# Altium footprint library Opto.PcbLib: 23 footprints (part 1 of 2)
Each footprint in its own frame and in the unit in brackets; x right, y up, seen from the top. Pads: shape width x height; smd on the part's side, far side on the other; paste and mask are expansions set on the pad; w line width, h text height; cw(c..) or ccw(c..) is an arc to the next point about the centre after c.
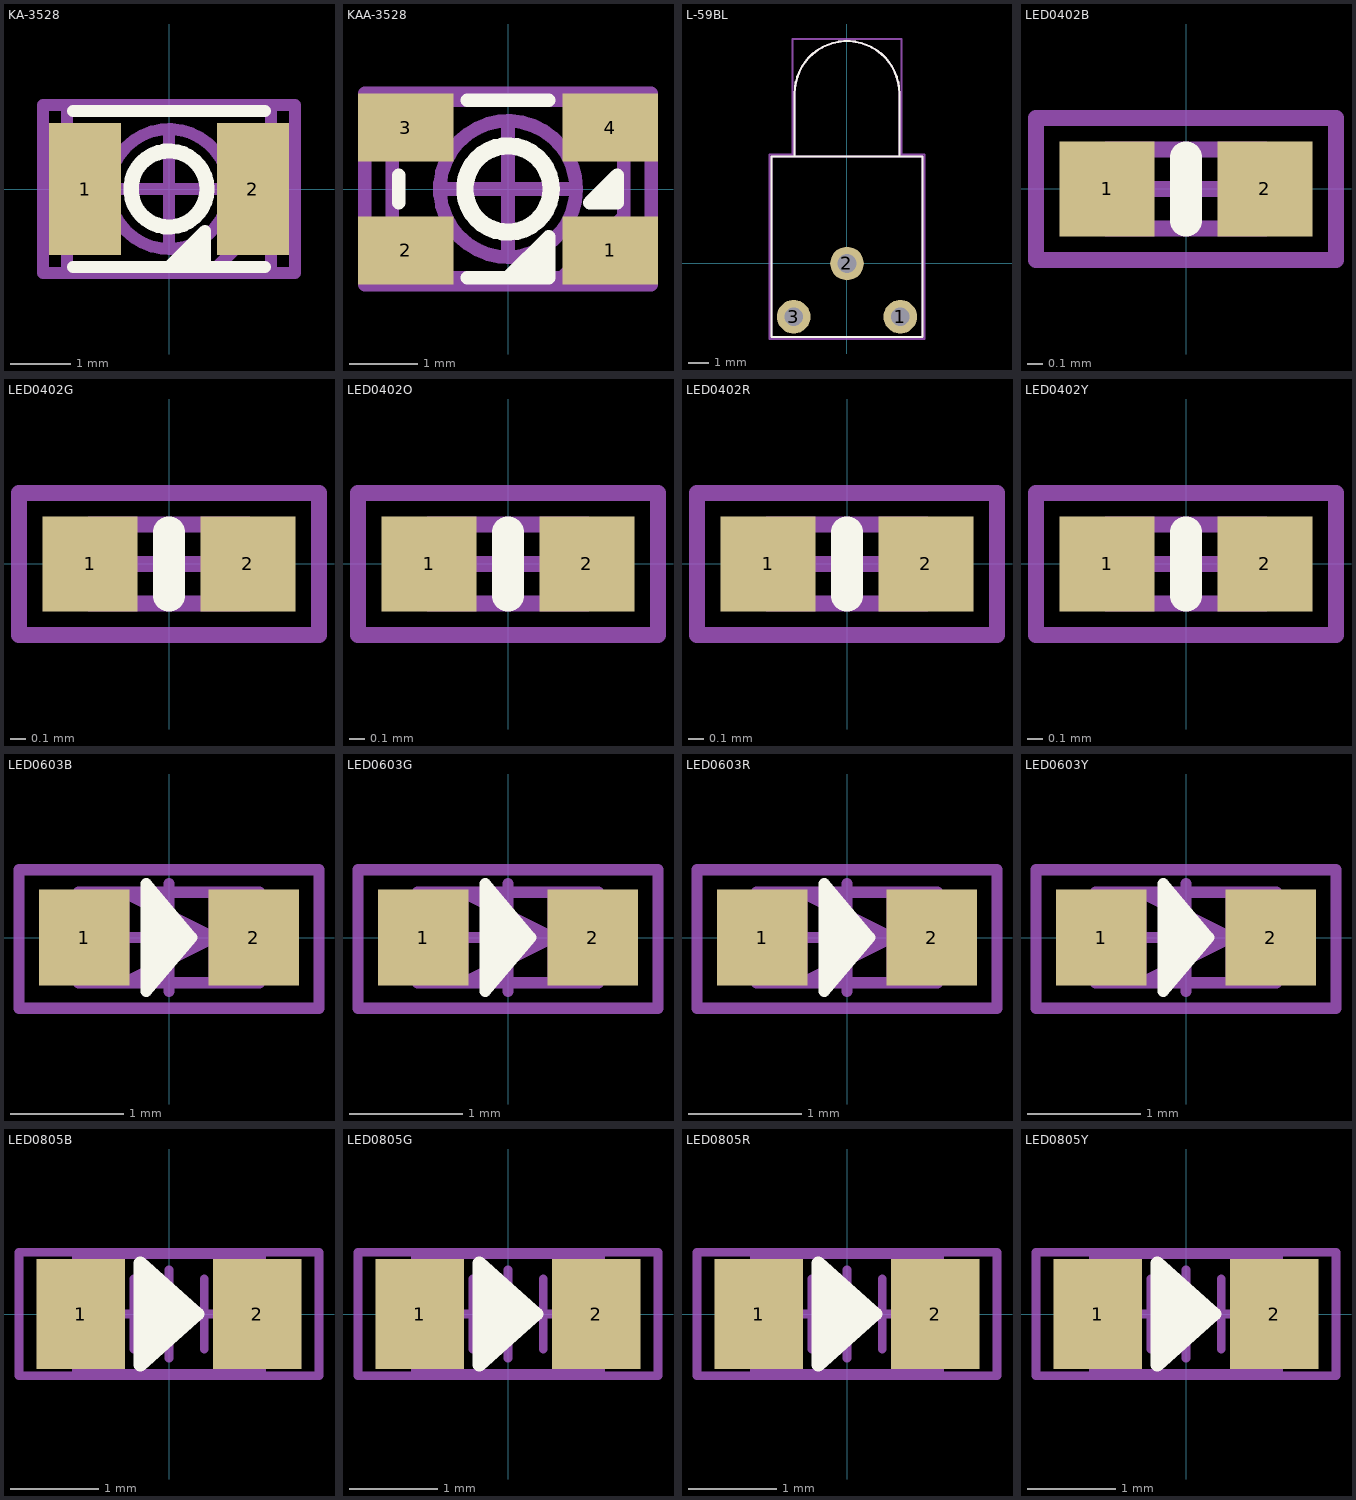
[diagram p0: the footprints below, top view; thin cyan lines are the x and y axes]

## KA-3528 [mm]
pads (2):
  rect 1.2x2.2 smd: 1(-1.4,0) 2(1.4,0)
Top Overlay:
  circle w0.254: c0,0 r0.632
  lines w0.2: -1.6,-1.3 1.6,-1.3 ; -1.6,1.3 1.6,1.3 ; 0,-1.3 0.6,-0.7 0.6,-1.3 0.237,-1.3 0.537,-1 0.537,-1.181
Top Assembly (Mech3):
  circle w0.2: c0,0 r1
  lines w0.2: 0.8,-1.3 1.7,-0.4 ; -1.7,-1.3 1.7,-1.3 1.7,1.3 -1.7,1.3 -1.7,-1.3
Top Courtyard:
  lines w0.2: -1,0 0,0 ; 0,-1 0,0 ; 0,1 0,0 ; 1,0 0,0 ; -2.1,-1.4 -2.1,1.4 2.1,1.4 2.1,-1.4 -2.1,-1.4
3D body "User Library-KAA-3528.STEP": height 1.9, standoff 0, extent -1.75,-1.4 1.75,1.4

## KAA-3528 [mm]
pads (4):
  rect 1.4x1 smd: 1(1.5,-0.9) 2(-1.5,-0.9) 3(-1.5,0.9) 4(1.5,0.9)
Top Overlay:
  circle w0.254: c0,0 r0.632
  lines w0.2: -1.6,-0.2 -1.6,0.2 ; -0.6,-1.3 0.6,-1.3 ; -0.6,1.3 0.6,1.3 ; 0,-1.3 0.6,-0.7 0.6,-1.3 ; 0.537,-1.181 0.537,-1 0.237,-1.3 0.6,-1.3 ; 1.4,-0.2 1.4,0 1.6,-0.2 ; 1.6,-0.2 1.6,0.2 1.2,-0.2 1.6,-0.2
Top Assembly (Mech3):
  circle w0.2: c0,0 r1
  lines w0.2: 0.8,-1.3 1.7,-0.4 ; -1.7,-1.3 1.7,-1.3 1.7,1.3 -1.7,1.3 -1.7,-1.3
Top Courtyard:
  lines w0.2: -1,0 0,0 ; 0,-1 0,0 ; 0,1 0,0 ; 1,0 0,0 ; -2.1,-1.4 -2.1,1.4 2.1,1.4 2.1,-1.4 -2.1,-1.4
3D body: height 3.48, standoff -0.02, extent 0,0 0,0
3D body "User Library-KAA-3528.STEP": height 1.9, standoff 0, extent -1.75,-1.4 1.75,1.4

## L-59BL [mm]
pads (3):
  round 1.6 hole 0.9: 1(2.54,-2.54) 2(0,0) 3(-2.54,-2.54)
Top Overlay:
  lines w0.1: -2.5,5.1 -2.5,8.1 cw(c0,8.1) 2.5,8.1 2.5,5.1 ; -3.6,-3.5 -3.6,5.1 0,5.1 3.6,5.1 3.6,-3.5 -3.6,-3.5
Top Assembly (Mech3):
  lines w0.1: -2.5,5.1 -2.5,8.1 cw(c0,8.1) 2.5,8.1 2.5,5.1 ; -3.6,-3.5 -3.6,5.1 0,5.1 3.6,5.1 3.6,-3.5 -3.6,-3.5
Top Courtyard:
  lines w0.1: -0.475,0 0.475,0 ; 0,-0.475 0,0.475 ; -3.7,-3.6 -3.7,5.2 -2.6,5.2 -2.6,10.7 2.6,10.7 2.6,5.2 3.7,5.2 3.7,-3.6 -3.7,-3.6
3D body "Kingbright_L-59BL_1EGW.stp": height 7.24, standoff -3.5, extent -3.62,-3.57 3.62,10.57

## LED0402B [mm]
height 0.35
pads (2):
  rect 0.6x0.6 smd: 1(-0.5,0) 2(0.5,0)
Top Overlay:
  lines w0.2: 0,-0.2 0,0.2
Top Assembly (Mech3):
  lines w0.1: 0.3,-0.25 0.3,0.25 ; -0.5,-0.25 0.5,-0.25 0.5,0.25 -0.5,0.25 -0.5,-0.25
Top Courtyard:
  lines w0.1: -0.25,0 0.25,0 ; 0,-0.25 0,0.25 ; -0.95,-0.45 0.95,-0.45 0.95,0.45 -0.95,0.45 -0.95,-0.45
3D body "666.STEP": height 0.45, standoff 0, extent -0.505,-0.25 0.505,0.25

## LED0402G [mm]
height 0.35
pads (2):
  rect 0.6x0.6 smd: 1(-0.5,0) 2(0.5,0)
Top Overlay:
  lines w0.2: 0,-0.2 0,0.2
Top Assembly (Mech3):
  lines w0.1: 0.3,-0.25 0.3,0.25 ; -0.5,-0.25 0.5,-0.25 0.5,0.25 -0.5,0.25 -0.5,-0.25
Top Courtyard:
  lines w0.1: -0.25,0 0.25,0 ; 0,-0.25 0,0.25 ; -0.95,-0.45 0.95,-0.45 0.95,0.45 -0.95,0.45 -0.95,-0.45
3D body "User Library-led_0402 green.STEP": height 0.45, standoff 0, extent -0.505,-0.25 0.505,0.25

## LED0402O [mm]
height 0.35
pads (2):
  rect 0.6x0.6 smd: 1(-0.5,0) 2(0.5,0)
Top Overlay:
  lines w0.2: 0,-0.2 0,0.2
Top Assembly (Mech3):
  lines w0.1: 0.3,-0.25 0.3,0.25 ; -0.5,-0.25 -0.5,0.25 0.5,0.25 0.5,-0.25 -0.5,-0.25
Top Courtyard:
  lines w0.1: -0.25,0 0.25,0 ; 0,-0.25 0,0.25 ; -0.95,-0.45 0.95,-0.45 0.95,0.45 -0.95,0.45 -0.95,-0.45
3D body "8888.STEP": height 0.45, standoff 0, extent -0.505,-0.25 0.505,0.25

## LED0402R [mm]
height 0.35
pads (2):
  rect 0.6x0.6 smd: 1(-0.5,0) 2(0.5,0)
Top Overlay:
  lines w0.2: 0,-0.2 0,0.2
Top Assembly (Mech3):
  lines w0.1: 0.3,-0.25 0.3,0.25 ; -0.5,-0.25 0.5,-0.25 0.5,0.25 -0.5,0.25 -0.5,-0.25
Top Courtyard:
  lines w0.1: -0.25,0 0.25,0 ; 0,-0.25 0,0.25 ; -0.95,-0.45 -0.95,0.45 0.95,0.45 0.95,-0.45 -0.95,-0.45
3D body "User Library-led_0402.STEP": height 0.48, standoff 0.03, extent -0.505,-0.25 0.505,0.25

## LED0402Y [mm]
height 0.35
pads (2):
  rect 0.6x0.6 smd: 1(-0.5,0) 2(0.5,0)
Top Overlay:
  lines w0.2: 0,-0.2 0,0.2
Top Assembly (Mech3):
  lines w0.1: 0.3,-0.25 0.3,0.25 ; -0.5,-0.25 0.5,-0.25 0.5,0.25 -0.5,0.25 -0.5,-0.25
Top Courtyard:
  lines w0.1: -0.25,0 0.25,0 ; 0,-0.25 0,0.25 ; -0.95,-0.45 -0.95,0.45 0.95,0.45 0.95,-0.45 -0.95,-0.45
3D body "777.STEP": height 0.45, standoff 0, extent -0.505,-0.25 0.505,0.25

## LED0603B [mm]
height 0.6
pads (2):
  rect 0.8x0.85 smd: 1(-0.75,0) 2(0.75,0)
Top Overlay:
  region: -0.2,0.475 -0.2,-0.475 0.2,0
  lines w0.1: -0.2,-0.475 -0.2,0.475 0.2,0 -0.2,-0.475
Top Assembly (Mech3):
  lines w0.1: 0.4,-0.4 0.4,0.4 ; -0.8,-0.4 0.8,-0.4 0.8,0.4 -0.8,0.4 -0.8,-0.4 ; -0.4,-0.4 0.4,0 -0.4,0.4 -0.4,-0.4
Top Courtyard:
  lines w0.1: -0.475,0 0.475,0 ; 0,-0.475 0,0.475 ; -1.325,-0.625 -1.325,0.6 1.325,0.6 1.325,-0.625 -1.325,-0.625
3D body "User Library-LED_0603_B.STEP": height 0.6, standoff 0, extent -0.8,-0.4 0.8,0.4

## LED0603G [mm]
height 0.6
pads (2):
  rect 0.8x0.85 smd: 1(-0.75,0) 2(0.75,0)
Top Overlay:
  region: -0.2,0.475 -0.2,-0.475 0.2,0
  lines w0.1: -0.2,-0.475 0.2,0 -0.2,0.475 -0.2,-0.475
Top Assembly (Mech3):
  lines w0.1: 0.4,-0.4 0.4,0.4 ; -0.8,-0.4 -0.8,0.4 0.8,0.4 0.8,-0.4 -0.8,-0.4 ; -0.4,-0.4 0.4,0 -0.4,0.4 -0.4,-0.4
Top Courtyard:
  lines w0.1: -0.475,0 0.475,0 ; 0,-0.475 0,0.475 ; -1.325,-0.625 1.325,-0.625 1.325,0.6 -1.325,0.6 -1.325,-0.625
3D body "User Library-LED_0603_G.STEP": height 0.6, standoff 0, extent -0.8,-0.4 0.8,0.4

## LED0603R [mm]
height 0.6
pads (2):
  rect 0.8x0.85 smd: 1(-0.75,0) 2(0.75,0)
Top Overlay:
  region: -0.2,0.475 -0.2,-0.475 0.2,0
  lines w0.1: -0.2,-0.475 0.2,0 -0.2,0.475 -0.2,-0.475
Top Assembly (Mech3):
  lines w0.1: 0.4,-0.4 0.4,0.4 ; -0.8,-0.4 0.8,-0.4 0.8,0.4 -0.8,0.4 -0.8,-0.4 ; -0.4,-0.4 0.4,0 -0.4,0.4 -0.4,-0.4
Top Courtyard:
  lines w0.1: -0.475,0 0.475,0 ; 0,-0.475 0,0.475 ; -1.325,-0.625 -1.325,0.6 1.325,0.6 1.325,-0.625 -1.325,-0.625
3D body "User Library-LED_0603_R.STEP": height 0.6, standoff 0, extent -0.8,-0.4 0.8,0.4

## LED0603Y [mm]
height 0.6
pads (2):
  rect 0.8x0.85 smd: 1(-0.75,0) 2(0.75,0)
Top Overlay:
  region: -0.2,0.475 -0.2,-0.475 0.2,0
  lines w0.1: -0.2,-0.475 -0.2,0.475 0.2,0 -0.2,-0.475
Top Assembly (Mech3):
  lines w0.1: 0.4,-0.4 0.4,0.4 ; -0.8,-0.4 0.8,-0.4 0.8,0.4 -0.8,0.4 -0.8,-0.4 ; -0.4,-0.4 0.4,0 -0.4,0.4 -0.4,-0.4
Top Courtyard:
  lines w0.1: -0.475,0 0.475,0 ; 0,-0.475 0,0.475 ; -1.325,-0.625 -1.325,0.6 1.325,0.6 1.325,-0.625 -1.325,-0.625
3D body "User Library-LED_0603_Y.STEP": height 0.6, standoff 0, extent -0.8,-0.4 0.8,0.4

## LED0805B [mm]
height 1
pads (2):
  rect 1x1.25 smd: 1(-1,0) 2(1,0)
Top Overlay:
  region: -0.325,0.575 0.25,0 -0.325,-0.575
  region: -0.4,-0.625
  region: -0.4,-0.625
  region: -0.35,0.575
  lines w0.15: -0.325,-0.575 0.325,0 -0.325,0.575 -0.325,-0.575
Top Assembly (Mech3):
  lines w0.1: 0.4,-0.4 0.4,0.4 ; -1.05,-0.675 -1.05,0.675 1.05,0.675 1.05,-0.675 -1.05,-0.675 ; -0.4,-0.4 -0.4,0.4 0.4,0 -0.4,-0.4
Top Courtyard:
  lines w0.1: -0.5,0 0.5,0 ; 0,-0.5 0,0.5 ; -1.7,-0.7 1.7,-0.7 1.7,0.7 -1.7,0.7 -1.7,-0.7
3D body "LED 0805 - BLUE.STEP": height 0.9, standoff -0.01, extent -1.05,-0.675 1.05,0.675

## LED0805G [mm]
height 1
pads (2):
  rect 1x1.25 smd: 1(-1,0) 2(1,0)
Top Overlay:
  region: -0.325,0.575 0.25,0 -0.325,-0.575
  lines w0.15: -0.325,-0.575 -0.325,0.575 0.325,0 -0.325,-0.575
Top Assembly (Mech3):
  lines w0.1: 0.4,-0.4 0.4,0.4 ; -1.05,-0.675 -1.05,0.675 1.05,0.675 1.05,-0.675 -1.05,-0.675 ; -0.4,-0.4 -0.4,0.4 0.4,0 -0.4,-0.4
Top Courtyard:
  lines w0.1: -0.5,0 0.5,0 ; 0,-0.5 0,0.5 ; -1.7,-0.7 1.7,-0.7 1.7,0.7 -1.7,0.7 -1.7,-0.7
3D body "LED 0805 - GREEN.STEP": height 0.9, standoff -0.01, extent -1.05,-0.675 1.05,0.675

## LED0805R [mm]
height 1
pads (2):
  rect 1x1.25 smd: 1(-1,0) 2(1,0)
Top Overlay:
  region: -0.325,0.575 0.25,0 -0.325,-0.575
  lines w0.15: -0.325,-0.575 -0.325,0.575 0.325,0 -0.325,-0.575
Top Assembly (Mech3):
  lines w0.1: 0.4,-0.4 0.4,0.4 ; -1.05,-0.675 1.05,-0.675 1.05,0.675 -1.05,0.675 -1.05,-0.675 ; -0.4,-0.4 0.4,0 -0.4,0.4 -0.4,-0.4
Top Courtyard:
  lines w0.1: -0.5,0 0.5,0 ; 0,-0.5 0,0.5 ; -1.7,-0.7 1.7,-0.7 1.7,0.7 -1.7,0.7 -1.7,-0.7
3D body "User Library-CHIPLED-0805.STEP": height 0.9, standoff -0.01, extent -1.05,-0.675 1.05,0.675

## LED0805Y [mm]
height 1
pads (2):
  rect 1x1.25 smd: 1(-1,0) 2(1,0)
Top Overlay:
  region: -0.325,0.575 0.25,0 -0.325,-0.575
  lines w0.15: -0.325,-0.575 0.325,0 -0.325,0.575 -0.325,-0.575
Top Assembly (Mech3):
  lines w0.1: 0.4,-0.4 0.4,0.4 ; -1.05,-0.675 1.05,-0.675 1.05,0.675 -1.05,0.675 -1.05,-0.675 ; -0.4,-0.4 0.4,0 -0.4,0.4 -0.4,-0.4
Top Courtyard:
  lines w0.1: -0.5,0 0.5,0 ; 0,-0.5 0,0.5 ; -1.7,-0.7 -1.7,0.7 1.7,0.7 1.7,-0.7 -1.7,-0.7
3D body "orange.STEP": height 0.9, standoff -0.01, extent -1.05,-0.675 1.05,0.675